# EAGLE library part TMC2209_SILENTSTEPSTICK (library TMC2209_SILENTSTEPSTICK)
Check availability <https://pricing.snapeda.com/parts/TMC2209%20SILENTSTEPSTICK/Trinamic%20Motion%20Control%20GmbH/view-part?ref=eda>
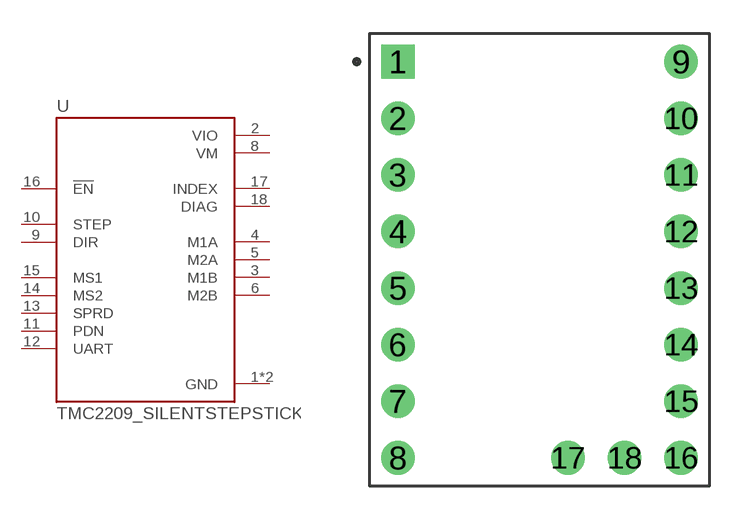
[diagram p0: symbol with the pads of MODULE_TMC2209_SILENTSTEPSTICK; footprint MODULE_TMC2209_SILENTSTEPSTICK]

Designator prefix U

## TMC2209_SILENTSTEPSTICK (Availability: In Stock; Description: TMC2209 Motor Controller/Driver Power Management Evaluation Board; MF: Trinamic Motion Control GmbH; MP: TMC2209 SILENTSTEPSTICK; Package: None; Price: None; Purchase-URL: https://pricing.snapeda.com/search?q=TMC2209 SILENTSTEPSTICK&ref=eda)  [MODULE_TMC2209_SILENTSTEPSTICK]
1  GND  pwr
2  VIO  pwr
3  M1B  out
4  M1A  out
5  M2A  out
6  M2B  out
7  GND  pwr
8  VM  pwr
9  DIR  in
10  STEP  in
11  PDN
12  UART
13  SPRD  in
14  MS2  in
15  MS1  in
16  !EN  in
17  INDEX  out
18  DIAG  out

## Footprint MODULE_TMC2209_SILENTSTEPSTICK (pad centres in mm)
drill 1 square: 1 -6.35,8.89
drill 1: 2 -6.35,6.35; 3 -6.35,3.81; 4 -6.35,1.27; 5 -6.35,-1.27; 6 -6.35,-3.81; 7 -6.35,-6.35; 8 -6.35,-8.89; 9 6.35,8.89; 10 6.35,6.35; 11 6.35,3.81; 12 6.35,1.27; 13 6.35,-1.27; 14 6.35,-3.81; 15 6.35,-6.35; 16 6.35,-8.89; 17 1.27,-8.89; 18 3.81,-8.89